# Altium schematic symbol library cap.Schlib: 2 symbols
Pins are listed as number, name and electrical type; pins without a type are passive.

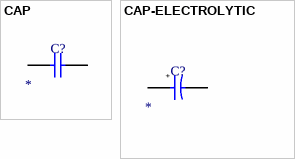
[diagram p0: symbols CAP to CAP-ELECTROLYTIC]

## CAP
designator C?
CAP; Value: *
pins: 1, 2

## CAP-ELECTROLYTIC
designator C?
CAP; Value: *
pins: 1, 2
text: +